# Altium schematic symbol library Zenerdiode.SchLib: 1 symbol
Pins are listed as number, name and electrical type; pins without a type are passive.

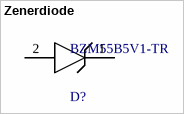
[diagram p0: symbol Zenerdiode]

## Zenerdiode
designator D?, comment BZM55B5V1-TR
Test Current: 5mA; Zener Voltage: 5.1V; Element Configuration: Single; Impedance: 60R; ESD Protection: No; Voltage Tolerance: 2%; Power Dissipation: 500mW; Max Reverse Leakage Current: 100nA; Max Operating Temperature: 175°C; Series: -; Package Quantity: 12500; Min Operating Temperature: -65°C; Radiation Hardening: No; RoHS Compliant: Yes; Contact Plating: Tin; Max Power Dissipation: 500mW; Number of Pins: 2; Packaging: Tape and Reel; Mount: Surface Mount; Case/Package: SMD/SMT
footprint FP-6_560-5007_01-4-MFG
pins: 1 C, 2 A